# Altium schematic symbol library conn-9x1_x2.Schlib: 1 symbol
Pins are listed as number, name and electrical type; pins without a type are passive.

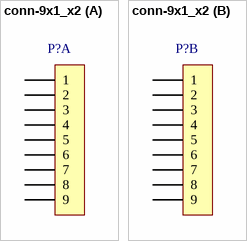
[diagram p0: symbol conn-9x1_x2]

## conn-9x1_x2
designator P?  (value not drawn)
2-part 9-pin connector
part A pins: 1, 2, 3, 4, 5, 6, 7, 8, 9
part B pins: 10 1, 11 2, 12 3, 13 4, 14 5, 15 6, 16 7, 17 8, 18 9